# EAGLE library part TRANSFORMER_ETHERNET (library Bauteile)
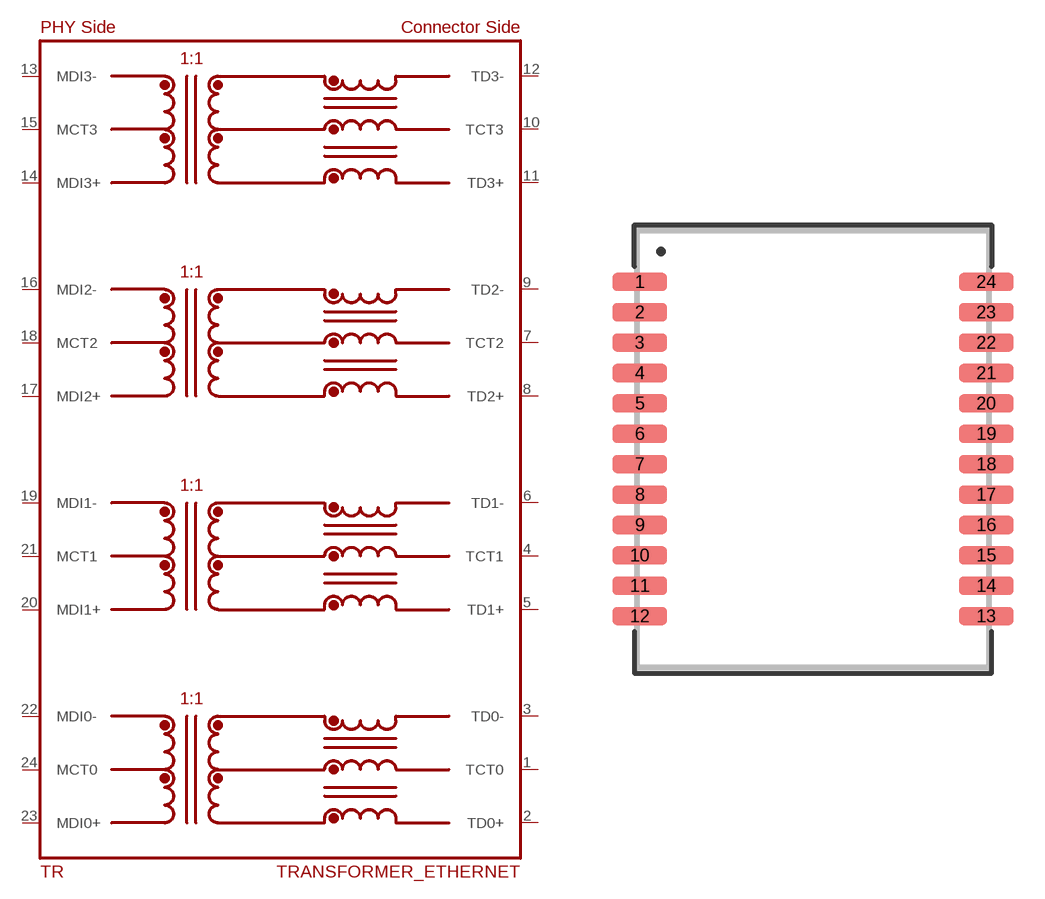
[diagram p136: symbol with the pads of TRANSFORMER_ETHERNET_WUERTH_7490220121; footprint TRANSFORMER_ETHERNET_WUERTH_7490220121]

Designator prefix TR

## TRANSFORMER_ETHERNET(7490220121) (ID: 7490220121; VALUE: 7490220121)  [TRANSFORMER_ETHERNET_WUERTH_7490220121]
1  TCT0
2  TD0+
3  TD0-
4  TCT1
5  TD1+
6  TD1-
7  TCT2
8  TD2+
9  TD2-
10  TCT3
11  TD3+
12  TD3-
13  MDI3-
14  MDI3+
15  MCT3
16  MDI2-
17  MDI2+
18  MCT2
19  MDI1-
20  MDI1+
21  MCT1
22  MDI0-
23  MDI0+
24  MCT0

## Footprint TRANSFORMER_ETHERNET_WUERTH_7490220121 (pad centres in mm)
smd 2.29 x 0.76: 1 -7.24,6.985; 2 -7.24,5.715; 3 -7.24,4.445; 4 -7.24,3.175; 5 -7.24,1.905; 6 -7.24,0.635; 7 -7.24,-0.635; 8 -7.24,-1.905; 9 -7.24,-3.175; 10 -7.24,-4.445; 11 -7.24,-5.715; 12 -7.24,-6.985; 13 7.24,-6.985; 14 7.24,-5.715; 15 7.24,-4.445; 16 7.24,-3.175; 17 7.24,-1.905; 18 7.24,-0.635; 19 7.24,0.635; 20 7.24,1.905; 21 7.24,3.175; 22 7.24,4.445; 23 7.24,5.715; 24 7.24,6.985